# EAGLE library part 1751413 (library 1751413)
PCB terminal block, 3.5mm pitch, 2 level Source: Datasheet <https://datasheet.datasheetarchive.com/originals/distributors/SFDatasheet-2/sf-00051394.pdf>
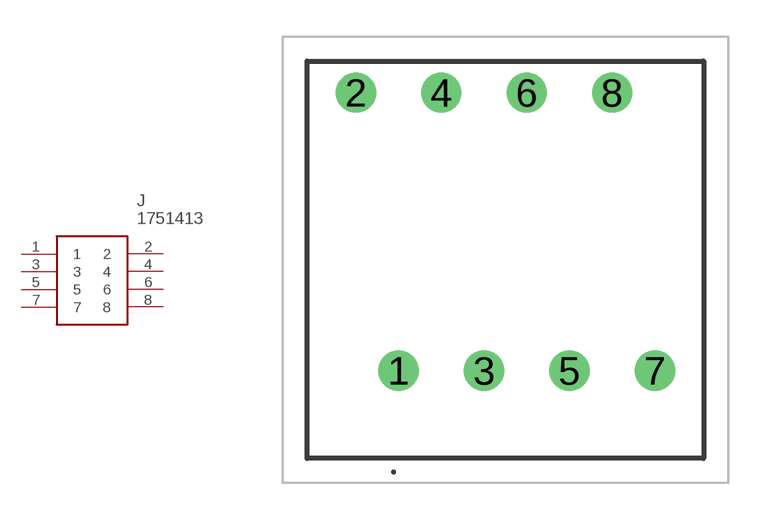
[diagram p0: symbol with the pads of 1751413; footprint 1751413]

Designator prefix J

## 1751413 (Arrow_Part_Number: 1751413; Arrow_Price-Stock: https://www.arrow.com/en/products/1751413/phoenix-contact?region=nac; Description: PCB terminal block, 3.5mm pitch, 2 level; Height: 16.35mm; Manufacturer_Name: Phoenix Contact; Manufacturer_Part_Number: 1751413; Mouser_Part_Number: 651-1751413; Mouser_Price-Stock: https://www.mouser.co.uk/ProductDetail/Phoenix-Contact/1751413?qs=IooffJMZQA61yzSPaR8Rbw%3D%3D)  [1751413]
1  1
2  2
3  3
4  4
5  5
6  6
7  7
8  8

## Footprint 1751413 (pad centres in mm)
1751413-1
drill 1.1 pad 1.65: 1 0,0; 2 -1.75,11.4; 3 3.5,0; 4 1.75,11.4; 5 7,0; 6 5.25,11.4; 7 10.5,0; 8 8.75,11.4